# EAGLE library part LTC1480 (library LTC1480)
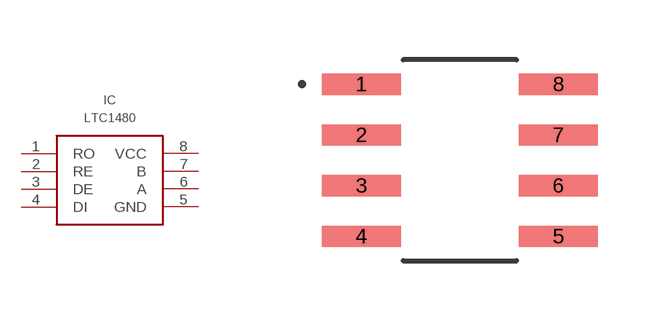
[diagram p0: symbol with the pads of LTC1480; footprint LTC1480]

Designator prefix IC

## LTC1480  [LTC1480]
1  RO
2  RE
3  DE
4  DI
5  GND
6  A
7  B
8  VCC

## Footprint LTC1480 (pad centres in mm)
smd 1.981 x 0.533: 1 -2.464,1.905; 2 -2.464,0.635; 3 -2.464,-0.635; 4 -2.464,-1.905; 5 2.464,-1.905; 6 2.464,-0.635; 7 2.464,0.635; 8 2.464,1.905